# Altium footprint library 迷你打印机.PcbLib: 25 footprints (part 1 of 2)
Each footprint in its own frame and in the unit in brackets; x right, y up, seen from the top. Pads: shape width x height; smd on the part's side, far side on the other; paste and mask are expansions set on the pad; w line width, h text height; cw(c..) or ccw(c..) is an arc to the next point about the centre after c.
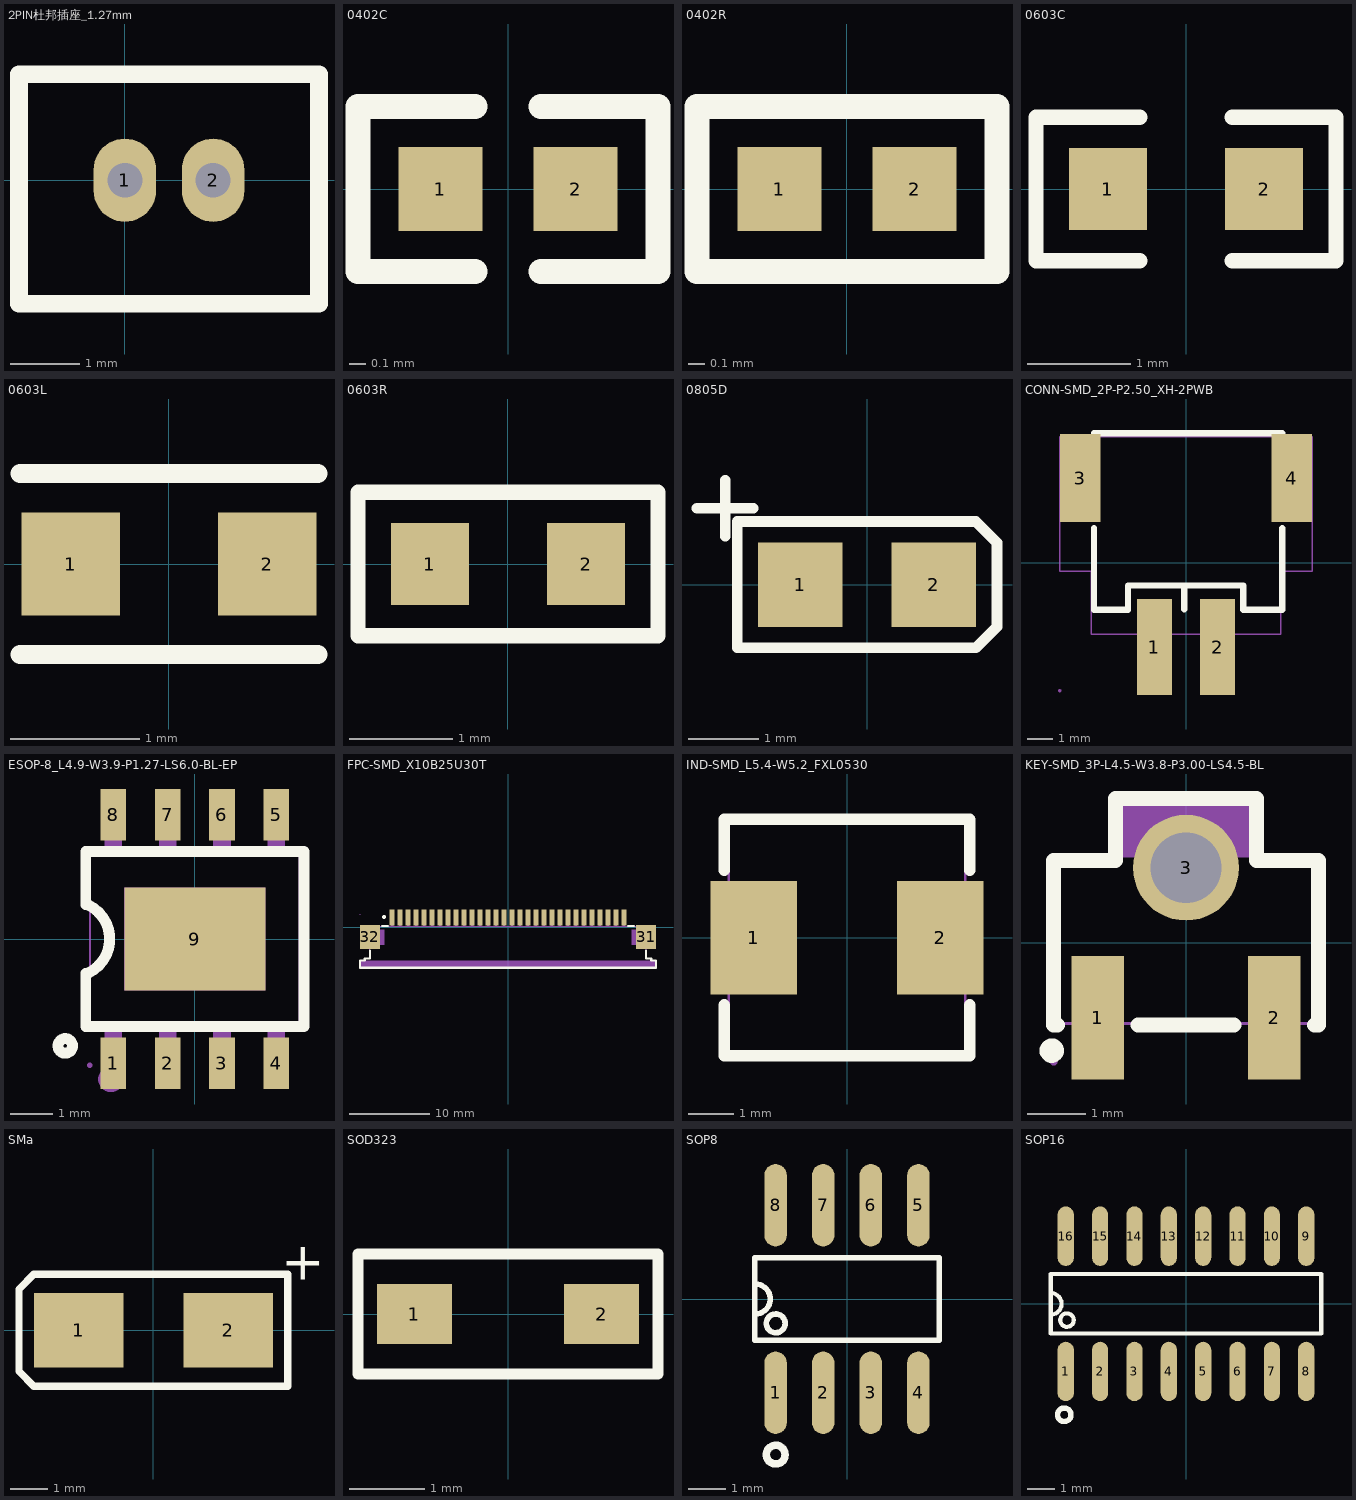
[diagram p0: the footprints below, top view; thin cyan lines are the x and y axes]

## 2PIN杜邦插座_1.27mm [mm]
pads (2):
  oval 0.9x1.2 hole 0.5: 1(0,0) 2(1.27,0)
Top Overlay:
  lines w0.254: -1.524,-1.778 2.794,-1.778 2.794,1.524 -1.524,1.524 -1.524,-1.778

## 0402C [mm]
pads (2):
  rect 0.51x0.51 smd: 1(-0.41,0) 2(0.41,0)
Top Overlay:
  lines w0.15: -0.2,-0.5 -0.91,-0.5 -0.91,0.5 -0.2,0.5 ; 0.2,-0.5 0.91,-0.5 0.91,0.5 0.2,0.5

## 0402R [mm]
pads (2):
  rect 0.51x0.51 smd: 1(-0.41,0) 2(0.41,0)
Top Overlay:
  lines w0.15: -0.91,-0.5 0.91,-0.5 0.91,0.5 -0.91,0.5 -0.91,-0.5

## 0603C [mm]
pads (2):
  rect 0.76x0.8 smd: 1(-0.76,0) 2(0.76,0)
Top Overlay:
  lines w0.15: -0.45,-0.7 -1.46,-0.7 -1.46,0.7 -0.45,0.7 ; 0.45,-0.7 1.46,-0.7 1.46,0.7 0.45,0.7

## 0603L [mm]
pads (2):
  rect 0.76x0.8 smd: 1(-0.76,0) 2(0.76,0)
Top Overlay:
  lines w0.15: -1.15,-0.7 1.15,-0.7 ; -1.15,0.7 1.15,0.7

## 0603R [mm]
pads (2):
  rect 0.76x0.8 smd: 1(-0.76,0) 2(0.76,0)
Top Overlay:
  lines w0.15: -1.46,-0.7 1.46,-0.7 1.46,0.7 -1.46,0.7 -1.46,-0.7

## 0805D [mm]
pads (2):
  rect 1.2x1.2 smd: 1(-0.95,0) 2(0.95,0)
Top Overlay:
  lines w0.15: -2.42,1.09 -1.62,1.09 ; -2.02,0.69 -2.02,1.49 ; -1.85,-0.9 -1.85,0.9 1.55,0.9 1.85,0.6 1.85,-0.6 1.55,-0.9 -1.85,-0.9

## CONN-SMD_2P-P2.50_XH-2PWB [mm]
pads (4):
  rect 1.4x3.8 smd: 1(-1.25,-3.35) 2(1.25,-3.35)
  rect 1.6x3.5 smd: 3(-4.2,3.35) 4(4.2,3.35)
Top Overlay:
  lines w0.254: -3.648,1.369 -3.648,-1.873 ; -3.648,5.137 3.819,5.137 ; -3.172,5.137 3.172,5.137 ; -0.067,-1.848 -0.067,-0.908 ; 3.794,-1.873 2.27,-1.873 2.27,-0.908 -0.067,-0.908 ; 3.819,-1.873 3.819,1.369 ; -3.648,-1.873 -2.302,-1.873 ; -3.648,-1.873 -2.302,-1.873 ; -2.302,-1.873 -2.302,-0.908 -0.067,-0.908
Mechanical 15:
  region: -4.948,-5.078 -4.948,-5.053 -4.983,-5.018 -5.033,-5.018 -5.068,-5.053 -5.068,-5.078 -5.068,-5.103 -5.033,-5.138 -4.983,-5.138 -4.948,-5.103 -4.948,-5.078
  region: 0.93,-2.676 1.57,-2.676 1.57,-5.076 0.93,-5.076
  region: -1.57,-2.676 -0.93,-2.676 -0.93,-5.076 -1.57,-5.076
  region: -4.98,4.449 -4.08,4.449 -4.08,2.049 -4.98,2.049
  region: 4.08,4.423 4.98,4.423 4.98,2.023 4.08,2.023
  lines w0.051: -5,4.995 -4.998,-0.335 -3.76,-0.35 -3.753,-2.845 3.749,-2.845 3.75,-0.346 5,-0.343 5,4.995 -5,4.995

## ESOP-8_L4.9-W3.9-P1.27-LS6.0-BL-EP [mm]
pads (9):
  rect 0.6x1.2 smd: 1(-1.905,-2.908) 2(-0.635,-2.908) 3(0.635,-2.908) 4(1.905,-2.908) 5(1.905,2.908) 6(0.635,2.908) 7(-0.635,2.908) 8(-1.905,2.908)
  rect 3.3x2.4 smd: 9(0,0)
Top Overlay:
  circle w0.254: c-3.03,-2.5 r0.17
  lines w0.254: -2.55,-0.8 -2.55,-2.05 2.55,-2.05 2.55,2.05 -2.55,2.05 -2.55,0.8 ; -2.5,-0.8 ccw(c-2.875,0) -2.5,0.8
Mechanical 6:
  circle w0.3: c-1.96,-3.28 r0.15
Mechanical 15:
  region: 1.65,-1.2 -1.65,-1.2 -1.65,1.2 1.65,1.2
  region: 1.705,-2.95 1.705,-2.3 2.105,-2.3 2.105,-2.95
  region: 1.705,-2.31 1.705,-1.94 2.105,-1.94 2.105,-2.31
  region: 0.435,-2.95 0.435,-2.3 0.835,-2.3 0.835,-2.95
  region: 0.435,-2.31 0.435,-1.94 0.835,-1.94 0.835,-2.31
  region: -0.835,-2.95 -0.835,-2.3 -0.435,-2.3 -0.435,-2.95
  region: -0.835,-2.31 -0.835,-1.94 -0.435,-1.94 -0.435,-2.31
  region: -2.105,-2.95 -2.105,-2.3 -1.705,-2.3 -1.705,-2.95
  region: -2.105,-2.31 -2.105,-1.94 -1.705,-1.94 -1.705,-2.31
  region: 1.705,2.3 1.705,2.95 2.105,2.95 2.105,2.3
  region: 1.705,1.94 1.705,2.31 2.105,2.31 2.105,1.94
  region: 0.435,2.3 0.435,2.95 0.835,2.95 0.835,2.3
  region: 0.435,1.94 0.435,2.31 0.835,2.31 0.835,1.94
  region: -0.835,2.3 -0.835,2.95 -0.435,2.95 -0.435,2.3
  region: -0.835,1.94 -0.835,2.31 -0.435,2.31 -0.435,1.94
  region: -2.105,2.3 -2.105,2.95 -1.705,2.95 -1.705,2.3
  region: -2.105,1.94 -2.105,2.31 -1.705,2.31 -1.705,1.94
  region: -2.394,-2.95 -2.394,-2.925 -2.429,-2.89 -2.479,-2.89 -2.514,-2.925 -2.514,-2.95 -2.514,-2.975 -2.479,-3.01 -2.429,-3.01 -2.394,-2.975 -2.394,-2.95
  lines w0.051: -2.45,-1.95 -2.45,1.95 2.45,1.95 2.45,-1.95 -2.45,-1.95

## FPC-SMD_X10B25U30T [mm]
pads (32):
  rect 0.6x2 smd: 1(-14.5,1.225) 2(-13.5,1.225) 3(-12.5,1.225) 4(-11.5,1.225) 5(-10.5,1.225) 6(-9.5,1.225) 7(-8.5,1.225) 8(-7.5,1.225) 9(-6.5,1.225) 10(-5.5,1.225) 11(-4.5,1.225) 12(-3.5,1.225) 13(-2.5,1.225) 14(-1.5,1.225) 15(-0.5,1.225) 16(0.5,1.225) 17(1.5,1.225) 18(2.5,1.225) 19(3.5,1.225) 20(4.5,1.225) 21(5.5,1.225) 22(6.5,1.225) 23(7.5,1.225) 24(8.5,1.225) 25(9.5,1.225) 26(10.5,1.225) 27(11.5,1.225) 28(12.5,1.225) 29(13.5,1.225) 30(14.5,1.225)
  rect 2.5x3 smd: 31(17.25,-1.225) 32(-17.25,-1.225)
Top Overlay:
  circle w0.254: c-15.494,1.27 r0.127
  lines w0.254: -17.272,-2.956 -17.272,-3.937 -17.907,-3.937 -17.907,-4.191 -18.5,-4.191 -18.5,-5.08 18.5,-5.08 18.5,-4.191 17.907,-4.191 17.907,-3.937 17.272,-3.937 17.272,-2.956 ; -15.769,0.127 -15.009,0.127 ; 15.009,0.127 15.769,0.127
Mechanical 6:
  region: -18.5,-5.2 -18.5,-4.2 18.5,-4.2 18.5,-5.2
Mechanical 15:
  drawing of 45 lines, arcs and shapes, not listed

## IND-SMD_L5.4-W5.2_FXL0530 [mm]
pads (2):
  rect 1.9x2.5 smd: 1(-2.05,0) 2(2.05,0)
Top Overlay:
  lines w0.254: -2.7,-1.481 -2.7,-2.6 2.7,-2.6 2.7,-1.481 ; -2.7,1.481 -2.7,2.6 2.7,2.6 2.7,1.481
Mechanical 15:
  region: -2.64,-2.6 -2.64,-2.575 -2.675,-2.541 -2.725,-2.541 -2.76,-2.575 -2.76,-2.6 -2.76,-2.624 -2.725,-2.659 -2.675,-2.659 -2.64,-2.625 -2.64,-2.6
  region: -2.7,1.1 -1.5,1.1 -1.5,-1.1 -2.7,-1.1
  region: 2.7,-1.1 1.5,-1.1 1.5,1.1 2.7,1.1
  lines w0.051: -2.6,-2.6 2.6,-2.6 2.6,2.6 -2.6,2.6 -2.6,-2.6

## KEY-SMD_3P-L4.5-W3.8-P3.00-LS4.5-BL [mm]
pads (3):
  rect 0.9x2.1 smd paste-100 mask+0.05: 1(-1.5,-1.275) 2(1.5,-1.275)
  round 1.8 hole 1.2 paste+0 mask+0.05: 3(0,1.275)
Top Overlay:
  circle w0.254: c-2.282,-1.835 r0.081
  lines w0.254: -2.25,0.75 -2.25,-1.4 -2.181,-1.4 ; -2.25,0.8 -2.25,1.4 -1.2,1.4 -1.2,2.45 1.2,2.45 1.2,1.4 2.25,1.4 2.25,-1.4 2.181,-1.4 ; -0.819,-1.4 0.819,-1.4
Top Paste:
  drawing of 3 lines, arcs and shapes, not listed
Mechanical 6:
  region: -1.15,2.4 1.15,2.4 1.15,1.45 -1.15,1.45
Mechanical 15:
  region: -0.35,1.425 0.35,1.425 0.35,1.125 -0.35,1.125
  region: -1.825,-0.5 -1.175,-0.5 -1.175,-2.025 -1.825,-2.025
  region: 1.175,-0.5 1.825,-0.5 1.825,-2.025 1.175,-2.025
  region: -2.19,-2.025 -2.19,-2 -2.225,-1.965 -2.275,-1.965 -2.31,-2 -2.31,-2.025 -2.31,-2.05 -2.275,-2.085 -2.225,-2.085 -2.19,-2.05 -2.19,-2.025
  lines w0.051: -2.25,-1.375 2.25,-1.375 2.25,1.375 1.2,1.375 1.2,2.425 -1.2,2.425 -1.2,1.375 -2.25,1.375 -2.25,-1.375

## SMa [mm]
pads (2):
  rect 2.4x2 smd: 1(-2,0) 2(2,0)
Top Overlay:
  lines w0.2: -3.6,-1.1 -3.6,1.1 -3.2,1.5 3.6,1.5 3.6,-1.5 -3.2,-1.5 -3.6,-1.1
  text "+" at 3.42,1.36 h1.02

## SOD323 [mm]
pads (2):
  rect 1x0.8 smd: 1(-1.25,0) 2(1.25,0)
Top Overlay:
  lines w0.15: -2,-0.8 2,-0.8 2,0.8 -2,0.8 -2,-0.8

## SOP8 [mm]
pads (8):
  oval 0.6x2.2 smd: 1(-1.905,-2.5) 2(-0.635,-2.5) 3(0.635,-2.5) 4(1.905,-2.5) 5(1.905,2.5) 6(0.635,2.5) 7(-0.635,2.5) 8(-1.905,2.5)
Top Overlay:
  circle w0.15: c-1.9,-0.65 r0.25
  circle w0.2: c-1.9,-4.15 r0.25
  lines w0.15: -2.447,-0.4 ccw(c-2.447,0) -2.447,0.4 ; -2.46,-1.1 -2.46,1.1 2.46,1.1 2.46,-1.1 -2.46,-1.1

## SOP16 [mm]
pads (16):
  oval 0.6x2.2 smd: 1(-4.445,-2.5) 2(-3.175,-2.5) 3(-1.905,-2.5) 4(-0.635,-2.5) 5(0.635,-2.5) 6(1.905,-2.5) 7(3.175,-2.5) 8(4.445,-2.5) 9(4.445,2.5) 10(3.175,2.5) 11(1.905,2.5) 12(0.635,2.5) 13(-0.635,2.5) 14(-1.905,2.5) 15(-3.175,2.5) 16(-4.445,2.5)
Top Overlay:
  circle w0.2: c-4.5,-4.1 r0.25
  circle w0.15: c-4.4,-0.6 r0.25
  lines w0.15: -5,-0.4 ccw(c-5,0) -5,0.4 ; -5,-1.1 5,-1.1 5,1.1 -5,1.1 -5,-1.1